# Altium integrated library My_Library_SMD_Electrlytic_Capacitor.IntLib: 3 symbols
Pins are listed as number, name and electrical type; pins without a type are passive.

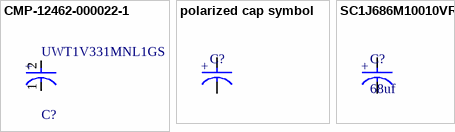
[diagram p0: symbols CMP-12462-000022-1 to SC1J686M10010VR]

## CMP-12462-000022-1
designator C?, comment UWT1V331MNL1GS
CAP ALUM 330UF 20% 35V SMD; Dielectric Material: Aluminium; Leakage Current: 3uA; Ripple Current: 300mA; Dissipation Factor: 0.14%; Lead Diameter: 1.1mm; Life (Hours): 1000Hour; Lead Pitch: 4.5mm; Lead Free: Lead Free; Height - Seated (Max): 0.394inch; Height: 10mm; Voltage Rating: 35V; Radiation Hardening: No; Capacitance: 330uF; REACH SVHC: No SVHC; Voltage: 35V; Packaging: Tape and Reel; Max Operating Temperature: 105°C; Ripple Current (AC): 300mA; Length: 10mm; Package Quantity: 500; Tolerance: 20%; Min Operating Temperature: -55°C; Case/Package: Radial; Termination: SMD/SMT; Number of Pins: 2; Mount: Surface Mount; Voltage Rating (DC): 35V; Diameter: 10mm
footprint FP-UWT1V331MNL1GS-MFG
pins: 1 C, 2 A
text: +

## polarized cap symbol
designator C?
pins: 1 C, 2 A
text: +

## SC1J686M10010VR
designator C?, comment 68uf
68uf 100V 85C; Value: 68uf; Voltage Rating: 100V
footprint 10x10 radial smd cap
pins: 1 C, 2 A
text: +